# Altium schematic symbol library IRM10-12.SchLib: 1 symbol
Pins are listed as number, name and electrical type; pins without a type are passive.

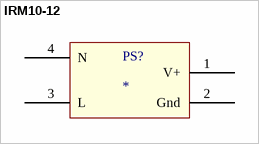
[diagram p0: symbol IRM10-12]

## IRM10-12
designator PS?
IRM10-12 12V
footprint IRM10-12
pins: 1 V+, 2 Gnd, 3 L, 4 N